# Altium integrated library CL32B476KPJNNWE.IntLib: 1 symbol
Pins are listed as number, name and electrical type; pins without a type are passive.

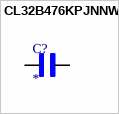
[diagram p0: symbol CL32B476KPJNNWE]

## CL32B476KPJNNWE
designator C?
47 ÂµF Â±10% 10V Ceramic Capacitor X7R 1210 (3225 Metric); MF: Samsung; MP: CL32B476KPJNNWE; SnapEDA_Link: https://www.snapeda.com/parts/CL32B476KPJNNWE/Samsung/view-part/?ref=snap; Package: SMD-2 Samsung; Value: *; Check_prices: https://www.snapeda.com/parts/CL32B476KPJNNWE/Samsung/view-part/?ref=eda
footprint CAPC3225X270N
pins: 1, 2